# Altium schematic symbol library C0805C105J4RACTU.SchLib: 1 symbol
Pins are listed as number, name and electrical type; pins without a type are passive.

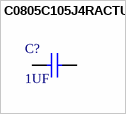
[diagram p0: symbol C0805C105J4RACTU]

## C0805C105J4RACTU
designator C?, comment 1UF
CAP CER 1UF 16V X7R 0805; Manufacturer Part Number: C0805C105J4RACTU; Manufacturer: KEMET; Product Training Modules: Capacitor Basics- Typical Uses for Capacitors; Capacitance: 1µF; Tolerance: ±5%; Online Catalog: X7R Dielectric (Commercial Grade); Other Names: 399-8001-6; Description: Multilayer Ceramic Capacitors MLCC - SMD/SMT 16volts 1uF X7R 5%; Supplier 1: Digi-Key; Standard Package: 1; Family: Ceramic Capacitors; Series: C; Packaging: Digi-Reel®; Voltage - Rated: 16V; Temperature Coefficient: X7R; Mounting Type: Surface Mount, MLCC; Operating Temperature: -55°C ~ 125°C; Applications: General Purpose; Ratings: -; Package / Case: 0805 (2012 Metric); Size / Dimension: 0.079" L x 0.049" W (2.00mm x 1.25mm); Height - Seated (Max): -; Thickness (Max): 0.039" (1.00mm); Lead Spacing: -; Features: -; Lead Style: -; ComponentLink1URL: http://components.arrow.com/part/dataview/30748390S8976888N7429; ComponentLink1Description: http://components.arrow.com/part/dataview/30748390S8976888N7429; ComponentLink2URL: http://www.mouser.com/ds/2/212/KEM_C1002_X7R_SMD-1102033.pdf; ComponentLink2Description: http://www.mouser.com/ds/2/212/KEM_C1002_X7R_SMD-1102033.pdf; ComponentLink3URL: http://www.farnell.com/datasheets/1828800.pdf; ComponentLink3Description: http://www.farnell.com/datasheets/1828800.pdf; ComponentLink4URL: http://www.farnell.com/datasheets/2064986.pdf; ComponentLink4Description: http://www.farnell.com/datasheets/2064986.pdf; ComponentLink5URL: http://capacitoredge.kemet.com/capedge2/DataSheet?pn=C0805C105J4RACTU; ComponentLink5Description: http://capacitoredge.kemet.com/capedge2/DataSheet?pn=C0805C105J4RACTU; ComponentLink6URL: https://search.kemet.com/component-edge/download/datasheet/C0805C105J4RACTU.pdf; ComponentLink6Description: https://search.kemet.com/component-edge/download/datasheet/C0805C105J4RACTU.pdf; Supplier Part Number 1: 399-8001-1-ND; Stock 1: 96238; Pricing 1: 1=0.35, 10=0.241, 100=0.1364, 500=0.0963, 1000=0.0842 (USD); Category: Capacitors
pins: 1, 2